# Altium schematic symbol library IFBschelib.SchLib: 99 symbols (part 1 of 2)
Pins are listed as number, name and electrical type; pins without a type are passive.

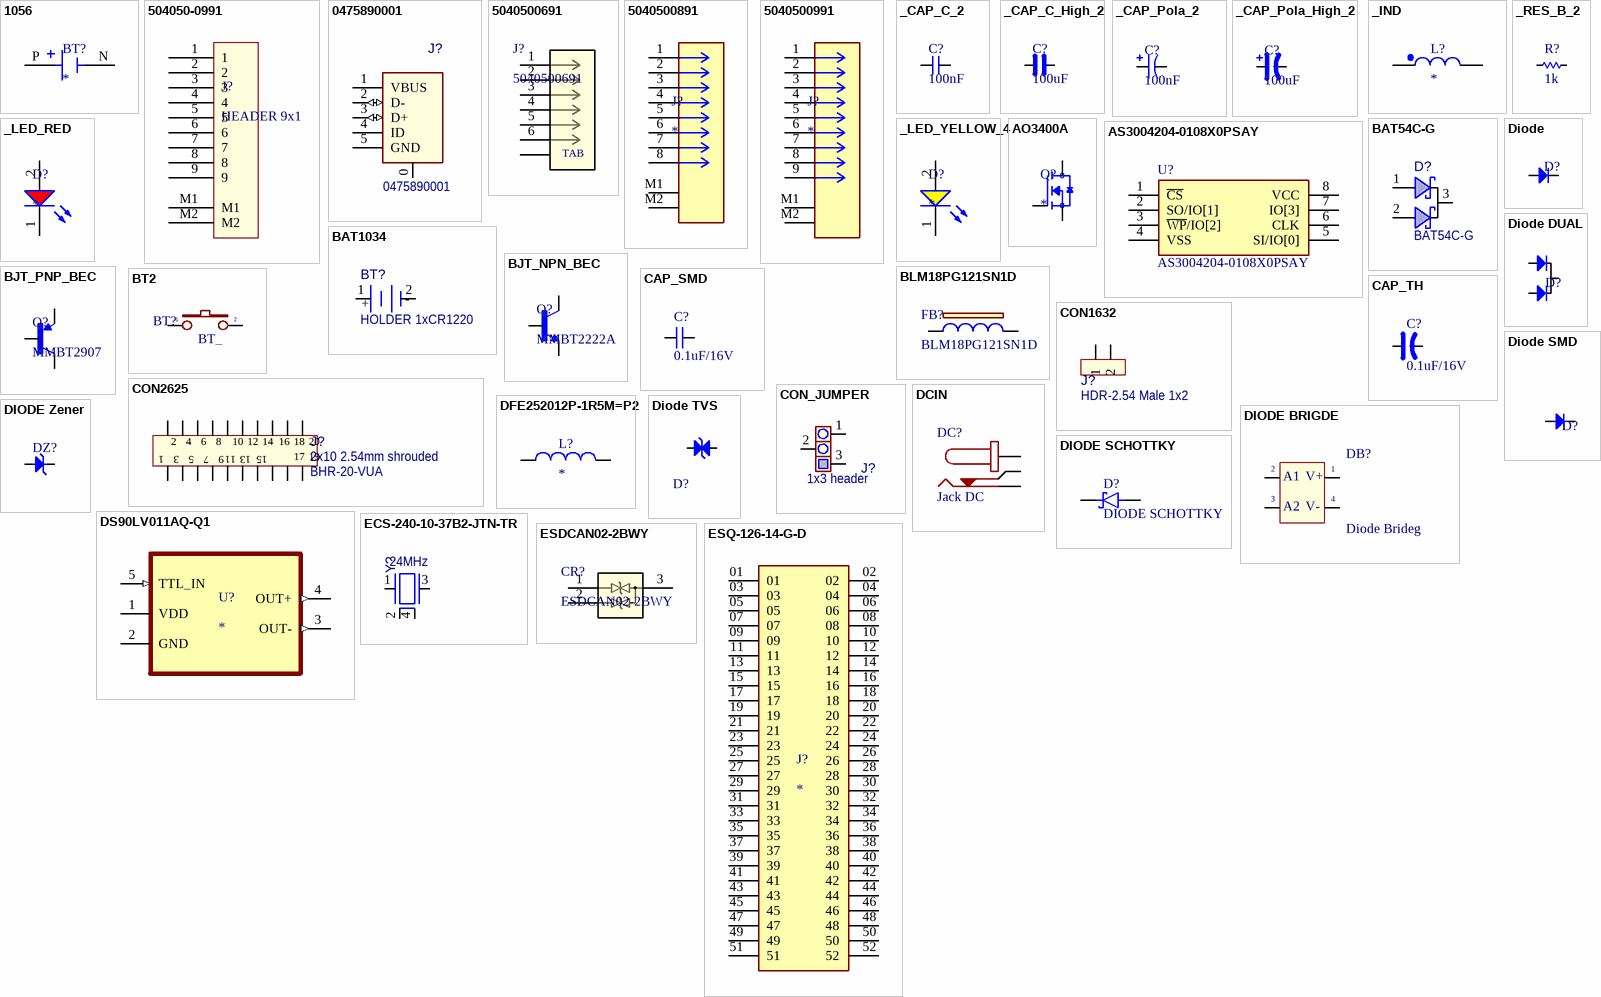
[diagram p0: symbols 1056 to ESQ-126-14-G-D]

## 1056
designator BT?
BATTERY HOLDER COIN 12.5MM SMD, SMT, 1 Coin Cell, 12mm, Plastic, UL94V-0 | Keystone Electronics 1056; MF: Keystone Electronics Corp.; MP: 1056; SnapEDA_Link: https://www.snapeda.com/parts/1056/Keystone/view-part/?ref=snap; Package: None; Value: *; Check_prices: https://www.snapeda.com/parts/1056/Keystone/view-part/?ref=eda
footprint BAT_1056
pins: N NEG, P POS

## 504050-0991
designator J?, comment HEADER 9x1
Molex Pico-Lock 504050-0991
footprint MOLEX_5040500991
pins: 1, 2, 3, 4, 5, 6, 7, 8, 9, M1, M2

## 0475890001
designator J?, comment value 0475890001  (hidden comment: CON USB2.0 Mini_Micro)
CONN RCPT MICRO USB AB 5P SMD RA; Manufacturer 1: Molex, LLC; MCHP-ID: CON1753; Description_: CON USB2.0 MICRO-AB FEMALE SMD R/A; Dev Tools Status: Production; Owner: Dragos Danaila; Voltage: 30VAC; Current: 1A, 1.8A; Custom Parameters: 10000 mating cycles; Populated: YES; Revision: 1; Symbol: CON USB2.0 Mini_Micro; Status: MCL Design; ComponentLink1URL: https://chn-vm-apps.microchip.com/mchprepo/parts/Datasheets/475890001_sd.pdf; ComponentLink1Description: SVN Datasheet; ComponentLink2URL: C:\ALTIUM_WORK\00001_MCHP-CDB\Datasheets\475890001_sd.pdf; ComponentLink2Description: Local Datasheet; ComponentLink3URL: C:\ALTIUM_WORK\00001_MCHP-CDB\Library\LibraryRefs\CON USB2.0 Mini_Micro.SchLib; ComponentLink3Description: Open Symbol; ComponentLink4URL: C:\ALTIUM_WORK\00001_MCHP-CDB\Library\Footprints\CON_USB_Micro-AB_SMD_RA_MOLEX_0475890001.PcbLib; ComponentLink4Description: Open Footprint; ComponentLink5Description: Open Footprint 2; ComponentLink6Description: Open Footprint 3; ComponentLink7Description: Open Footprint 4; Type: USB; Category: Connector; Manufacturer Part Number 1: 0475890001; Supplier 1: Digi-Key; Supplier Part Number 1: WM17143CT-ND; Quantity Override: 1; Operating Temperature: -35C to +85C; Assembly Type: SMD
footprint CON_USB_Micro-AB_SMD_RA_MOLEX_0475890001 (Connector, Receptacle, Micro-USB Type AB, R/A, SMT)
pins: 0 SHLD, 1 VBUS (power), 2 D- (io), 3 D+ (io), 4 ID, 5 GND (power)
4 alternate drawings of the same symbol

## 5040500691
designator J?
1.50mm Pitch, Pico-Lock PCB Header, Single Row, Right-Angle, Surface Mount, Gold (Au) Plating, Positive Lock, 6 Circuits, Tape and Reel; Manufacturer_Name: Molex Connector Corporation; Copyright: Copyright (C) 2025 Ultra Librarian. All rights reserved.; Manufacturer_Part_Number: 5040500691; Datasheet: https://www.molex.com/en-us/products/part-detail-pdf/5040500691?display=pdf; RefDes: RefDes; Type: Type
footprint 5040500691
pins: 1, 2, 3, 4, 5, 6, 7
text: TAB

## 5040500891
designator J?
Connector Header Surface Mount, Right Angle 8 position 0.059" (1.50mm)`
footprint MOLEX_5040500891
footprint MOLEX_5040500891
pins: 1, 2, 3, 4, 5, 6, 7, 8, M1, M2

## 5040500991
designator J?
Connector Header Surface Mount, Right Angle 9 position 0.059" (1.50mm)
footprint 5040500991
pins: 1, 2, 3, 4, 5, 6, 7, 8, 9, M1, M2

## _CAP_C_2
designator C?, comment 100nF
CAP CHIP
footprint CAP_C_1005X60
footprint CAP_C_1608X80 (Chip Capacitor, 2-Leads, Body 1.60x0.80mm, IPC Medium Density)
footprint CAP_C_2012X110 (Chip Capacitor, 2-Leads, Body 2.00x1.25mm, IPC High Density)
footprint CAP_C_3216X140 (Chip Capacitor, 2-Leads, Body 3.20x1.60mm, IPC High Density)
footprint CAP_C_3225X80 (Chip Capacitor, 2-Leads, Body 3.20x2.50mm, IPC Medium Density)
pins: 1, 2

## _CAP_C_High_2
designator C?, comment 100uF
CAP CHIP High Value
footprint CAP_C_1005X60
footprint CAP_C_1608X80 (Chip Capacitor, 2-Leads, Body 1.60x0.80mm, IPC Medium Density)
footprint CAP_C_2012X110 (Chip Capacitor, 2-Leads, Body 2.00x1.25mm, IPC High Density)
footprint CAP_C_3216X140 (Chip Capacitor, 2-Leads, Body 3.20x1.60mm, IPC High Density)
footprint CAP_C_3225X80 (Chip Capacitor, 2-Leads, Body 3.20x2.50mm, IPC Medium Density)
pins: 1, 2

## _CAP_Pola_2
designator C?, comment 100nF
CAP Polarization
footprint CAP_MP_1608X90 (Molded Capacitor, 2-Leads, Body 1.60x0.85mm, IPC Medium Density)
footprint CAP_MP_2012X170 (Molded Capacitor, 2-Leads, Body 2.05x1.40mm, IPC Medium Density)
pins: 1, 2

## _CAP_Pola_High_2
designator C?, comment 100uF
CAP Polarization High Value
footprint CAP_MP_3216X180 (Molded Capacitor, 2-Leads, Body 3.20x1.65mm, IPC Medium Density)
footprint CAP_MP_1608X90 (Molded Capacitor, 2-Leads, Body 1.60x0.85mm, IPC Medium Density)
footprint CAP_MP_2012X170 (Molded Capacitor, 2-Leads, Body 2.05x1.40mm, IPC Medium Density)
footprint CAP_MP_3528X210 (Molded Capacitor, 2-Leads, Body 3.50x2.85mm, IPC Medium Density)
pins: 1, 2

## _IND
designator L?
footprint IND730660x480 (Precision Wire Wound Inductor, 2-Leads, Body 7.30x6.60mm, IPC Medium Density)
footprint IND_C_2012X65 (Chip Inductor, 2-Leads, Body 2.00x1.25mm, IPC High Density)
pins: 1, 2

## _LED_RED
designator D?
footprint LED_0603
pins: 1 K, 2 A

## _LED_YELLOW_4
designator D?
footprint LED_0603
pins: 1 K, 2 A

## _RES_B_2
designator R?, comment 1k
RES
footprint RES_C_1005X40
footprint RES_C_1608X60 (Chip Resistor, 2-Leads, Body 1.63x0.83mm, IPC High Density)
footprint RES_C_2012X65 (Chip Resistor, 2-Leads, Body 2.00x1.25mm, IPC High Density)
footprint RES_C_3216X70 (Chip Resistor, 2-Leads, Body 3.20x1.60mm, IPC Medium Density)
pins: 1, 2

## AO3400A
designator Q?
N-Channel 30 V 5.7A (Ta) 1.4W (Ta) Surface Mount SOT-23-3; MF: Alpha & Omega Semiconductor; MP: AO3400A; SnapEDA_Link: https://www.snapeda.com/parts/AO3400A/Alpha/view-part/?ref=snap; Package: SOT-23 Alpha &amp; Omega Semiconductor Inc.; Value: *; Check_prices: https://www.snapeda.com/parts/AO3400A/Alpha/view-part/?ref=eda
footprint SOT95P280X125-3N
pins: 1 G, 2 S, 3 D

## AS3004204-0108X0PSAY
designator U?
MRAM Avalanche High Performance Serial P-SRAM 4Mb in SOIC8 package with QSPI - 108MHz interface, 3V, -40 C to 105 C; Manufacturer_Name: Avalanche Technology; Geometry.Height: 2.16mm; Manufacturer_Part_Number: AS3004204-0108X0PSAY; Mouser Part Number: 793-30042040108X0PSY; Mouser Price/Stock: https://www.mouser.co.uk/ProductDetail/Avalanche-Technology/AS3004204-0108X0PSAY/?qs=eP2BKZSCXI7G0ggegRejGg%3D%3D; Arrow Part Number: *; Arrow Price/Stock: *; Datasheet Link: https://www.mouser.ph/ProductDetail/Avalanche-Technology/AS3004204-0108X0PSAY?qs=eP2BKZSCXI7G0ggegRejGg%3D%3D
footprint SOIC127P790X216-8N
pins: 1 ~{CS}, 2 SO/IO[1], 3 ~{WP}/IO[2], 4 VSS, 5 SI/IO[0], 6 CLK, 7 IO[3], 8 VCC

## BAT54C-G
designator D?, comment value BAT54C-G  (hidden comment: Diode Schottky Dual CK)
DIODE ARR SCHOTT 30V 200MA SOT23; Manufacturer 1: Comchip Technology; MCHP-ID: DIODE1841; Description_: DIO SCTKY ARRAY BAT54C-G 520mV 200mA 30V SMD SOT-23-3; Dev Tools Status: Production; Type: Schottky Array; Power: 225mW; Reverse Current: 2mA; Reverse Recovery Time: 5ns; Owner: Cristina Salanti; Populated: YES; Restricted Sourcing: No; Revision: 1; Symbol: Diode Schottky Dual CK; Status: MCL Design; Package: SOT-23-3; ComponentLink1URL: https://chn-vm-apps.microchip.com/mchprepo/parts/Datasheets/BAT54.pdf; ComponentLink1Description: SVN Datasheet; ComponentLink2URL: C:\ALTIUM_WORK\00001_MCHP-CDB\Datasheets\BAT54.pdf; ComponentLink2Description: Local Datasheet; ComponentLink3URL: C:\ALTIUM_WORK\00001_MCHP-CDB\Library\LibraryRefs\Diode Schottky Dual CK.SchLib; ComponentLink3Description: Open Symbol; ComponentLink4URL: C:\ALTIUM_WORK\00001_MCHP-CDB\Library\Footprints\SOT-23-3.PcbLib; ComponentLink4Description: Open Footprint; ComponentLink5Description: Open Footprint 2; ComponentLink6Description: Open Footprint 3; ComponentLink7Description: Open Footprint 4; Operating Temperature: -55C to +125C; Category: Diode; Forward Current: 200mA; Reverse Voltage: 30V; Manufacturer Part Number 1: BAT54C-G; Supplier 1: Digi-Key; Supplier Part Number 1: 641-1320-1-ND; Quantity Override: 1
footprint SOT-23-3
pins: 1 A, 2 A, 3 KK

## BAT1034
designator BT?, comment value HOLDER 1xCR1220  (hidden comment: Battery 2 Pin)
Battery; Manufacturer 1: Keystone Electronics; Manufacturer Part Number 1: 3001; MCHP-ID: BAT1034; Description_: BATT HOLDER 1 COIN 12MM TH 3V; Dev Tools Status: Design; Owner: Sam Charles; Voltage: 3V; Chemistry: Li; Capacity: 35mAh; Populated: YES; Revision: A; Symbol: Battery 2 Pin; Status: MCL Design; ComponentLink1URL: https://chn-vm-apps.microchip.com/mchprepo/parts/Datasheets/3001.PDF; ComponentLink1Description: SVN Datasheet; ComponentLink2URL: C:\ALTIUM_WORK\00001_MCHP-CDB\Datasheets\3001.PDF; ComponentLink2Description: Local Datasheet; ComponentLink3URL: C:\ALTIUM_WORK\00001_MCHP-CDB\Library\LibraryRefs\Battery 2 Pin.SchLib; ComponentLink3Description: Open Symbol; ComponentLink4URL: C:\ALTIUM_WORK\00001_MCHP-CDB\Library\Footprints\BATT_HOLDER_12MM_3001.PcbLib; ComponentLink4Description: Open Footprint; ComponentLink5Description: Open Footprint 2; ComponentLink6Description: Open Footprint 3; ComponentLink7Description: Open Footprint 4; Type: Holder; Category: Battery; Supplier 1: Digi-Key; Supplier Part Number 1: 36-3001-ND; Quantity Override: 1
footprint BATT_HOLDER_12MM_3001
pins: 1 + (power), 2 - (power)
1 alternate drawing of the same symbol

## BJT_NPN_BEC
designator Q?, comment MMBT2222A
MF: Diotec Semiconductor; SnapEDA_Link: https://www.snapeda.com/parts/MMBT2222A/Diotec/view-part/?ref=snap; Package: SOT-23 Diotec; Value: *; MP: MMBT2222A; Check_prices: https://www.snapeda.com/parts/MMBT2222A/Diotec/view-part/?ref=eda
footprint SOT95P240X120-3N
pins: 1 B, 2 E, 3 C

## BJT_PNP_BEC
designator Q?, comment MMBT2907
MF: Diotec Semiconductor; MP: MMBT2222A; SnapEDA_Link: https://www.snapeda.com/parts/MMBT2222A/Diotec/view-part/?ref=snap; Package: SOT-23 Diotec; Value: *; Check_prices: https://www.snapeda.com/parts/MMBT2222A/Diotec/view-part/?ref=eda
footprint SOT95P240X120-3N
pins: 1 B, 2 E, 3 C

## BLM18PG121SN1D
designator FB?
FERRITE BEAD 120 OHM 0603 1LN; Manufacturer_Name: Murata; Copyright: Copyright (C) 2025 Ultra Librarian. All rights reserved.; Manufacturer_Part_Number: BLM18PG121SN1D
footprint IND_BLM18_0603_MUR
pins: 1, 2

## BT2
designator BT?, comment BT_
Switch button 2 pin; Value: SW chip 2 pin
footprint SW2-SMD
pins: 1, 2

## CAP_SMD
designator C?, comment 0.1uF/16V
CAP_Chip; Value: 33pF
pins: 1, 2

## CAP_TH
designator C?, comment 0.1uF/16V
CAP_Polarization; Published: 8-Jun-2000; LatestRevisionDate: 17-Jul-2002; LatestRevisionNote: Re-released for DXP Platform.; PackageReference: POLAR0.8; Publisher: Altium Limited
pins: 1, 2
1 alternate drawing of the same symbol

## CON1632
designator J?, comment value HDR-2.54 Male 1x2  (hidden comment: Header 1x2)
Manufacturer 1: Würth Elektronik; Manufacturer Part Number 1: 61300211121; MCHP-ID: CON1632; Description_: CON HDR-2.54 Male 1x2 Gold 5.84MH TH VERT; Dev Tools Status: Production; Owner: Narasimha Murthy; Populated: YES; Voltage: 250V; Current: 3A; Revision: 3; Symbol: Header 1x2; Status: MCL Design; ComponentLink1URL: https://chn-vm-apps.microchip.com/mchprepo/parts/Datasheets/6130xx11121.pdf; ComponentLink1Description: SVN Datasheet; ComponentLink2URL: C:\ALTIUM_WORK\00001_MCHP-CDB\Datasheets\6130xx11121.pdf; ComponentLink2Description: Local Datasheet; ComponentLink3URL: C:\ALTIUM_WORK\00001_MCHP-CDB\Library\LibraryRefs\Header 1x2.SchLib; ComponentLink3Description: Open Symbol; ComponentLink4URL: C:\ALTIUM_WORK\00001_MCHP-CDB\Library\Footprints\HDR_M_2.54_1x2.PcbLib; ComponentLink4Description: Open Footprint; ComponentLink5Description: Open Footprint 2; ComponentLink6Description: Open Footprint 3; ComponentLink7Description: Open Footprint 4; Type: Header 2.54mm; Category: Connector; Supplier 1: Digi-Key; Supplier Part Number 1: 732-5315-ND; Quantity Override: 1; Manufacturer 2: SHENZHEN JUNHAO ENGINEERING; Manufacturer Part Number 2: R-211-0211-0021-000; Supplier 2: SHENZHEN JUNHAO ENGINEERING; Supplier Part Number 2: R-211-0211-0021-000; Assembly Type: TH
footprint HDR_M_2.54_1x2 (Header Male Vertical 2 Way 2.54mm Pitch)
pins: 1, 2
9 alternate drawings of the same symbol

## CON2625
designator J?, comment value 2x10 2.54mm shrouded  Manufacturer Part Number 1: BHR-20-VUA  (hidden comment: Header 2x10)
Manufacturer 1: Adam Tech; MCHP-ID: CON2625; Description_: CON HDR-2.54 Male 2x10 Gold Shroud 9.1MH TH VERT; Dev Tools Status: Design; Owner: Dragos Danaila; Populated: YES; Voltage: 250VAC; Current: 3A; Revision: 1; Symbol: Header 2x10; Status: MCL Design; ComponentLink1URL: https://chn-vm-apps.microchip.com/mchprepo/parts/Datasheets/bhr-xx-vua-data-sheet.pdf; ComponentLink1Description: SVN Datasheet; ComponentLink2URL: C:\ALTIUM_WORK\00001_MCHP-CDB\Datasheets\bhr-xx-vua-data-sheet.pdf; ComponentLink2Description: Local Datasheet; ComponentLink3URL: C:\ALTIUM_WORK\00001_MCHP-CDB\Library\LibraryRefs\Header 2x10.SchLib; ComponentLink3Description: Open Symbol; ComponentLink4URL: C:\ALTIUM_WORK\00001_MCHP-CDB\Library\Footprints\HDR_M_2.54_2X10_SBH11-PBPC-D10-ST-BK.PcbLib; ComponentLink4Description: Open Footprint; ComponentLink5Description: Open Footprint 2; ComponentLink6Description: Open Footprint 3; ComponentLink7Description: Open Footprint 4; Type: Header 2.54mm; Category: Connector; Supplier 1: Digi-Key; Supplier Part Number 1: 2057-BHR-20-VUA-ND; Quantity Override: 1; Operating Temperature: -50C to +105C; Assembly Type: TH
footprint HDR_M_2.54_2X10_SBH11-PBPC-D10-ST-BK (20 Positions Header Connector 0.100" (2.54mm) Through Hole Gold)
pins: 1, 2, 3, 4, 5, 6, 7, 8, 9, 10, 11, 12, 13, 14, 15, 16, 17, 18, 19, 20
4 alternate drawings of the same symbol

## CON_JUMPER
designator J?, comment value 1x3 header  (hidden comment: Header 1x3)
used for choose jumper, header 3pins 2.54mm; Manufacturer 1: METZ CONNECT USA Inc.; Manufacturer Part Number 1: PR20203VBNN; MCHP-ID: CON2491; Description_: CON HDR-2.54 Male 1x3 Gold 6.10MH TH VERT; Dev Tools Status: Production; Owner: Dragos Danaila; Current: 3A; Populated: YES; Revision: 2; Symbol: Header 1x3; Status: MCL Design; ComponentLink1URL: https://chn-vm-apps.microchip.com/mchprepo/parts/Datasheets/Data_sheet_PR202XXVBNN.PDF; ComponentLink1Description: SVN Datasheet; ComponentLink2URL: C:\ALTIUM_WORK\00001_MCHP-CDB\Datasheets\Data_sheet_PR202XXVBNN.PDF; ComponentLink2Description: Local Datasheet; ComponentLink3URL: C:\ALTIUM_WORK\00001_MCHP-CDB\Library\LibraryRefs\Header 1x3.SchLib; ComponentLink3Description: Open Symbol; ComponentLink4URL: C:\ALTIUM_WORK\00001_MCHP-CDB\Library\Footprints\HDR_M_2.54_1x3.PcbLib; ComponentLink4Description: Open Footprint; ComponentLink5Description: Open Footprint 2; ComponentLink6Description: Open Footprint 3; ComponentLink7Description: Open Footprint 4; Type: Header 2.54mm; Category: Connector; Supplier 1: Digi-Key; Supplier Part Number 1: Deprecated_1849-1003-ND; Quantity Override: 1; Operating Temperature: -40C to +105C; Assembly Type: TH
footprint HDR_M_2.54_1x3 (Header Male Vertical 4 Way P=2.54mm)
pins: 1, 2, 3
6 alternate drawings of the same symbol

## DCIN
designator DC?, comment Jack DC
Jack DC input; Value: Jac DC
footprint DC0 (Jac DC input)
pins: 1 S (power) "Sleeve (Ground)", 2 TN "Tip Normal (Break Contact)", 3 T "Tip"

## DFE252012P-1R5M=P2
designator L?
Fixed Inductor 1.5uH 3.5A R060 SMD; MP: DFE252012P-1R5M=P2; Package: None; Price: None; Value: *; Availability: Unavailable
footprint INDC2520X120N
pins: 1, 2

## Diode
designator D?  (value not drawn)
Default Diode; Code - JEDEC: DO-214-AB; Value: 1N5007; Published: 8-Jun-2000; Revision: July-2002: Re-released for DXP Platform.; Publisher: Altium Limited
footprint DIO-1A
footprint DIO-0.5A-SMALL (Diode muoi, W 80mil, L 300mil)
footprint DIO-1A-SMALL (Diode 1A, W 100mil, L 350mil)
footprint DIO-2A (Diode 2A, W 150mil, L 450mil)
footprint DIO-5A (Diode 5A, W 200mil, L 550mil)
footprint DIO-5AN (Diode 5A, W 200mil, L 250mil)
footprint DIO-1AN (Diode 1A, W 100mil, L 150mil)
footprint DIO-3A (Diode 3A)
footprint DIO-2A - LONG (Diode 2A, W 150mil, L 450mil)
footprint DIO-2AN (Diode 2A, W 150mil, L 450mil)
footprint DIO-5A - LONG (Diode 5A, W 200mil, L 550mil)
footprint DIO-7A-SMALL (Diode 7A)
pins: 1 A, 2 K

## DIODE BRIGDE
designator DB?, comment Diode Brideg
Convert AC to DC voltage, 4 pin; Value: Cau 1A
footprint DIO-Bri 5A (Brigde 5A)
footprint DIO-Bri 1A
footprint DIO-Bri 2A (CAU 2A DET)
footprint DIO-BRI 35A (35A/1000V)
footprint DIO-Bri 10A (Brigde 10A)
footprint DIO-Bri 6A (Brigde 6A)
footprint DIO-Bri 8A (Brigde 8A)
footprint MB6S
pins: 1 +V OUT, 2 AC1, 3 AC2, 4 -V OUT
text: A1; V+; A2; V-

## Diode DUAL
designator D?  (value not drawn)
Default Diode; Code - JEDEC: DO-214-AB; Value: 1N5007; Published: 8-Jun-2000; Revision: July-2002: Re-released for DXP Platform.; Publisher: Altium Limited
footprint TO252-123
footprint TO220H2 (TO-220 - 1-2-3)
footprint TO220H1 (TO-220 - 1-2-3)
footprint TO220H3 (TO-220 1-2-3)
footprint TO247
footprint TO220-123 (TO-220 - 1-2-3)
footprint TO247+LageHeatsink
pins: 1, 2, 3

## DIODE SCHOTTKY
designator D?
pins: 1 K, 2 A

## Diode SMD
designator D?
Default Diode; Code - JEDEC: DO-214-AB; Value: 1N5007; Published: 8-Jun-2000; Revision: July-2002: Re-released for DXP Platform.; Publisher: Altium Limited
footprint DIO-SMD-106
footprint DIO-SMD-123
footprint DIO-SMD-A
footprint DIO-SMD-B (Magnetic-Core Inductor with Winding Polarity Marking; 2 Leads)
footprint DIO-SMD-216AA (DO216AA ST-MITE)
footprint DIO-SMD-222AA (DO216AA ST-MITE)
footprint DIO-SMD-C
footprint DIO-SMD-323
pins: 1 K, 2 A

## Diode TVS
designator D?
TVS Diode; Code - JEDEC: DO-214-AB; Value: 1N5007; Published: 8-Jun-2000; Revision: July-2002: Re-released for DXP Platform.; Publisher: Altium Limited
footprint DIO-SMD-106
footprint DIO-SMD-123
footprint DIO-SMD-A
footprint DIO-SMD-B (Magnetic-Core Inductor with Winding Polarity Marking; 2 Leads)
footprint DIO-SMD-216AA (DO216AA ST-MITE)
footprint DIO-SMD-222AA (DO216AA ST-MITE)
footprint DIO-SMD-C
footprint DIO-SMD-323
pins: 1 A, 2 K

## DIODE Zener
designator DZ?
Zenner
footprint DIO-0.5A-SMALL (Diode muoi, W 80mil, L 300mil)
footprint DIO-1A
footprint DIO-1A-SMALL (Diode 1A, W 100mil, L 350mil)
footprint DIO-1AN (Diode 1A, W 100mil, L 150mil)
footprint DIO-2A (Diode 2A, W 150mil, L 450mil)
footprint DIO-2A - LONG (Diode 2A, W 150mil, L 450mil)
footprint DIO-1A-ZEN (Diode 1A, W 100mil, L 350mil)
footprint DIO-2A-ZEN
pins: 1 K, 2 A

## DS90LV011AQ-Q1
designator U?
Automotive LVDS Differential Driver
footprint DS90LV011AQ-Q1
pins: 1 VDD (power), 2 GND (power), 3 OUT- (out), 4 OUT+ (out), 5 TTL_IN (in)

## ECS-240-10-37B2-JTN-TR
designator Y?, comment value 24MHz  (hidden comment: Crystal 4 Pins)
CRYSTAL 24 MHZ 10PF SMD; Manufacturer 1: ECS Inc; Manufacturer Part Number 1: ECS-240-10-37B2-JTN-TR; MCHP-ID: OSC1299; Description_: CRYSTAL 24MHz 10pF SMD L2W1.6H0.5; Dev Tools Status: Design; Owner: Ciprian Abramov; Tolerance: 20ppm; Populated: YES; Revision: 1; Symbol: Crystal 4 Pins; Status: MCL Design; ComponentLink1URL: https://chn-vm-apps.microchip.com/mchprepo/parts/Datasheets/ECX-1637B2.pdf; ComponentLink1Description: SVN Datasheet; ComponentLink2URL: C:\ALTIUM_WORK\00001_MCHP-CDB\Datasheets\ECX-1637B2.pdf; ComponentLink2Description: Local Datasheet; ComponentLink3URL: C:\ALTIUM_WORK\00001_MCHP-CDB\Library\LibraryRefs\Crystal 4 Pins.SchLib; ComponentLink3Description: Open Symbol; ComponentLink4URL: C:\ALTIUM_WORK\00001_MCHP-CDB\Library\Footprints\CRYSTAL_L2.0W1.6H0.5_FA-128.PcbLib; ComponentLink4Description: Open Footprint; ComponentLink5Description: Open Footprint 2; ComponentLink6Description: Open Footprint 3; ComponentLink7Description: Open Footprint 4; Operating Temperature: -40C to +85C; Package: L2.0W1.6H0.5; Type: Crystal; Category: Crystal/Oscillator; Load Capacitance: 10pF; Supplier 1: Digi-Key; Supplier Part Number 1: 50-ECS-240-10-37B2-JTN-TR-ND; Quantity Override: 1
footprint XTAL_ECS2401037B2JTNTR
pins: 1 Osc1, 2 GND (power), 3 Osc2, 4 GND (power)
1 alternate drawing of the same symbol

## ESDCAN02-2BWY
designator CR?
Automotive dual-line TVS in SOT323-3L for CAN bus (12 V system); Manufacturer_Name: STMicroelectronics; Copyright: Copyright (C) 2025 Ultra Librarian. All rights reserved.; Manufacturer_Part_Number: ESDCAN02-2BWY; RefDes: RefDes; Type: Type
footprint SOT323-3L_STM
pins: 1, 2, 3

## ESQ-126-14-G-D
designator J?
MP: ESQ-126-14-G-D; MF: Samtec; Price: None; Package: None; Value: *; Availability: Unavailable
footprint ESQ-126-14-G-D
pins: 01, 02, 03, 04, 05, 06, 07, 08, 09, 10, 11, 12, 13, 14, 15, 16, 17, 18, 19, 20, 21, 22, 23, 24, 25, 26, 27, 28, 29, 30, 31, 32, 33, 34, 35, 36, 37, 38, 39, 40, 41, 42, 43, 44, 45, 46, 47, 48, 49, 50, 51, 52

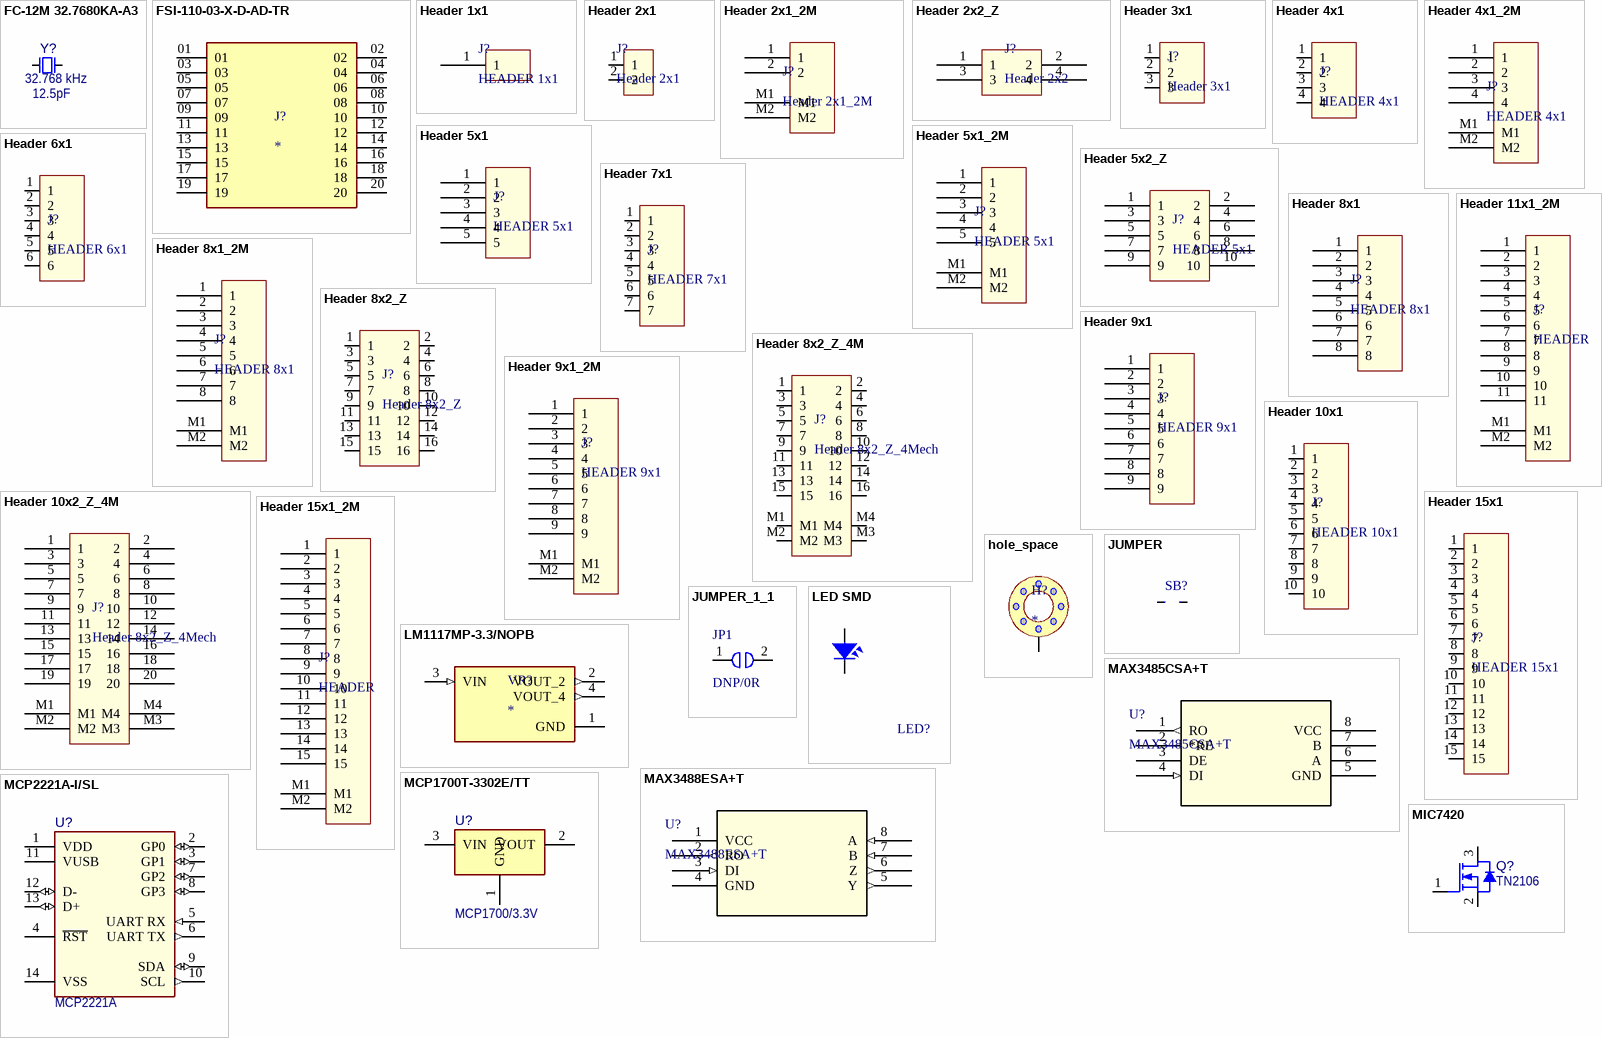
[diagram p1: symbols FC-12M 32.7680KA-A3 to MIC7420]

## FC-12M 32.7680KA-A3
designator Y?, comment value 32.768 kHz  Load Capacitance: 12.5pF  (hidden comment: Crystal 2 Pins)
CRYSTAL 32.7680KHZ 12.5PF SMD; Manufacturer 1: Epson; Manufacturer Part Number 1: FC-12M 32.7680KA-A3; MCHP-ID: OSC1269; Description_: CRYSTAL 32.768KHZ 12.5PF SMD 2-SMD, No Lead, FC-12M 32.7680KA-A3; Dev Tools Status: Design; Owner: Dragos Danaila; Tolerance: 20ppm; Populated: YES; Revision: 1; Symbol: Crystal 2 Pins; Status: MCL Design; ComponentLink1URL: https://chn-vm-apps.microchip.com/mchprepo/parts/Datasheets/FC-12D_en.pdf; ComponentLink1Description: SVN Datasheet; ComponentLink2URL: C:\ALTIUM_WORK\00001_MCHP-CDB\Datasheets\FC-12D_en.pdf; ComponentLink2Description: Local Datasheet; ComponentLink3URL: C:\ALTIUM_WORK\00001_MCHP-CDB\Library\LibraryRefs\Crystal 2 Pins.SchLib; ComponentLink3Description: Open Symbol; ComponentLink4URL: C:\ALTIUM_WORK\00001_MCHP-CDB\Library\Footprints\CRYSTAL_FC-12M_L2.05W1.2H0.6.PcbLib; ComponentLink4Description: Open Footprint; ComponentLink5Description: Open Footprint 2; ComponentLink6Description: Open Footprint 3; ComponentLink7Description: Open Footprint 4; Operating Temperature: -40°C ~ 85°C; Package: 2-SMD, No Lead; Type: Crystal; Category: Crystal/Oscillator; Supplier 1: Digikey; Supplier Part Number 1: SER3672CT-ND; Quantity Override: 1
footprint CRYSTAL_FC-12M_L2.05W1.2H0.6
pins: 1 Osc1, 2 Osc2

## FSI-110-03-X-D-AD-TR
designator J?
1mm SINGLE ELEMENT INTERFACE; MP: FSI-110-03-X-D-AD-TR; Price: None; Package: None; Availability: Unavailable; Value: *
footprint SAMTEC_FSI-110-03-X-D-AD-TR
pins: 01, 02, 03, 04, 05, 06, 07, 08, 09, 10, 11, 12, 13, 14, 15, 16, 17, 18, 19, 20

## Header 1x1
designator J?, comment HEADER 1x1
pins: 1

## Header 2x1
designator J?
footprint JST_B2B-XH-A
footprint JP2-D1T
pins: 1, 2

## Header 2x1_2M
designator J?
footprint JST_B2B-XH-A
footprint JP2-D1T
pins: 1, 2, M1, M2

## Header 2x2_Z
designator J?, comment Header 2x2
pins: 1, 2, 3, 4

## Header 3x1
designator J?
pins: 1, 2, 3

## Header 4x1
designator J?, comment HEADER 4x1
pins: 1, 2, 3, 4

## Header 4x1_2M
designator J?, comment HEADER 4x1
pins: 1, 2, 3, 4, M1, M2

## Header 5x1
designator J?, comment HEADER 5x1
footprint Header_254P_5x1
pins: 1, 2, 3, 4, 5

## Header 5x1_2M
designator J?, comment HEADER 5x1
pins: 1, 2, 3, 4, 5, M1, M2

## Header 5x2_Z
designator J?, comment HEADER 5x1
pins: 1, 2, 3, 4, 5, 6, 7, 8, 9, 10

## Header 6x1
designator J?, comment HEADER 6x1
pins: 1, 2, 3, 4, 5, 6

## Header 7x1
designator J?, comment HEADER 7x1
pins: 1, 2, 3, 4, 5, 6, 7

## Header 8x1
designator J?, comment HEADER 8x1
pins: 1, 2, 3, 4, 5, 6, 7, 8

## Header 8x1_2M
designator J?, comment HEADER 8x1
pins: 1, 2, 3, 4, 5, 6, 7, 8, M1, M2

## Header 8x2_Z
designator J?
Header 8x2 Zigzag pin
pins: 1, 2, 3, 4, 5, 6, 7, 8, 9, 10, 11, 12, 13, 14, 15, 16

## Header 8x2_Z_4M
designator J?, comment Header 8x2_Z_4Mech
Header 8x2 Zigzag pin_4Mech
pins: 1, 2, 3, 4, 5, 6, 7, 8, 9, 10, 11, 12, 13, 14, 15, 16, M1, M2, M3, M4

## Header 9x1
designator J?, comment HEADER 9x1
pins: 1, 2, 3, 4, 5, 6, 7, 8, 9

## Header 9x1_2M
designator J?, comment HEADER 9x1
pins: 1, 2, 3, 4, 5, 6, 7, 8, 9, M1, M2

## Header 10x1
designator J?, comment HEADER 10x1
pins: 1, 2, 3, 4, 5, 6, 7, 8, 9, 10

## Header 10x2_Z_4M
designator J?, comment Header 8x2_Z_4Mech
Header 8x2 Zigzag pin_4Mech
pins: 1, 2, 3, 4, 5, 6, 7, 8, 9, 10, 11, 12, 13, 14, 15, 16, 17, 18, 19, 20, M1, M2, M3, M4

## Header 11x1_2M
designator J?, comment HEADER
pins: 1, 2, 3, 4, 5, 6, 7, 8, 9, 10, 11, M1, M2

## Header 15x1
designator J?, comment HEADER 15x1
pins: 1, 2, 3, 4, 5, 6, 7, 8, 9, 10, 11, 12, 13, 14, 15

## Header 15x1_2M
designator J?, comment HEADER
pins: 1, 2, 3, 4, 5, 6, 7, 8, 9, 10, 11, 12, 13, 14, 15, M1, M2

## hole_space
designator H?
footprint HOLE_SPACE
pins: 1

## JUMPER
designator SB?  (value not drawn)
footprint JUMPER_1608
pins: 1, 2

## JUMPER_1_1
designator JP1, comment DNP/0R
footprint JUMPER2
footprint JUMPER-EXP-V110
footprint JUMPER-EXP-V110
footprint JUMPER
footprint JUMPER
footprint RES_C_1608X60 (Chip Resistor, 2-Leads, Body 1.63x0.83mm, IPC High Density)
pins: 1, 2

## LED SMD
designator LED?, comment LED  (value not drawn)
Value: LED 3 - 5 ly 2 Colour
footprint LED-0603-RED
footprint LED-0603-YELLOW
footprint LED-0805-Red
footprint LED-0805-Yellow
footprint LED-0603-Blue
footprint LED-0805-Blue
pins: 1, 2

## LM1117MP-3.3/NOPB
designator VR?
800-mA 15-V linear voltage regulator; MF: Texas Instruments; MP: LM1117MP-3.3/NOPB; SnapEDA_Link: https://www.snapeda.com/parts/LM1117MP-3.3/NOPB/Texas+Instruments/view-part/?ref=snap; Package: SOT-223-4 Texas Instruments; Value: *; Check_prices: https://www.snapeda.com/parts/LM1117MP-3.3/NOPB/Texas+Instruments/view-part/?ref=eda
footprint VREG_LM1117MP-3.3/NOPB
pins: 1 GND (power), 2 VOUT_2 (out), 3 VIN (in), 4 VOUT_4 (out)

## MAX3485CSA+T
designator U?
Low-Power, Slew-Rate-Limited RS-485/RS-422 Transceivers, IC TRANSCEIVER HALF 1/1 8SOIC; Manufacturer_Name: Analog Devices Inc; Manufacturer_Part_Number: MAX485CSA+T; Copyright: Copyright (C) 2025 Ultra Librarian. All rights reserved.; RefDes: RefDes; Type: Type
footprint 21-0041-3-M_90-0096-8L_MXM
pins: 1 RO (out), 2 *RE, 3 DE, 4 DI (in), 5 GND (power), 6 A, 7 B, 8 VCC (power)

## MAX3488ESA+T
designator U?
Low-Power, Slew-Rate-Limited RS-485/RS-422, IC TRANSCEIVER FULL 1/1 8SOIC; Manufacturer_Name: Analog Devices Inc; Manufacturer_Part_Number: MAX488ESA+T; Copyright: Copyright (C) 2025 Ultra Librarian. All rights reserved.; Digi-Key_Part_Number_1: MAX488ESA+CT-ND; Digi-Key_Part_Number_2: MAX488ESA+DKR-ND; Digi-Key_Part_Number_3: MAX488ESA+T-ND; Digi-Key_Part_Number_4: MAX488ESA+TR-ND; RefDes: RefDes; Type: Type
footprint 21-0041-3-M_90-0096-8L_MXM
pins: 1 VCC (power), 2 RO (out), 3 DI (in), 4 GND (power), 5 Y (out), 6 Z (out), 7 B (in), 8 A (in)

## MCP1700T-3302E/TT
designator U?, comment value MCP1700/3.3V  (hidden comment: MCP170X SOT-23-3_SOT-23A-3)
IC REG LINEAR 3.3V 250MA SOT23-3; Manufacturer 1: Microchip Technology; Manufacturer Part Number 1: MCP1700T-3302E/TT; MCHP-ID: MIC0598; Description_: MCHP ANALOG LDO 3.3V MCP1700T-3302E/TT SOT-23-3; Dev Tools Status: Production; Populated: Yes; Symbol: MCP170X SOT-23-3_SOT-23A-3; Type: LDO; Status: MCL Design; Revision: 1; Category: MCHP-Analog; ComponentLink1URL: https://www.microchip.com/sitesearch/search/Product%20and%20Development%20Tools/MCP1700T-3302E/TT; ComponentLink1Description: SVN Datasheet; ComponentLink2Description: Local Datasheet; ComponentLink3URL: C:\ALTIUM_WORK\00001_MCHP-CDB\Library\LibraryRefs\MCP170X SOT-23-3_SOT-23A-3.SchLib; ComponentLink3Description: Open Symbol; ComponentLink4URL: C:\ALTIUM_WORK\00001_MCHP-CDB\Library\Footprints\SOT-23-3.PcbLib; ComponentLink4Description: Open Footprint; ComponentLink5Description: Open Footprint 2; ComponentLink6Description: Open Footprint 3; ComponentLink7Description: Open Footprint 4; Supplier 1: Microchip Technology; Supplier Part Number 1: MCP1700T-3302E/TT; Operating Temperature: -40C to +125C; Quantity Override: 1
footprint SOT-23-3
pins: 1 GND (power), 2 VOUT (power), 3 VIN (power)

## MCP2221A-I/SL
designator U?, comment value MCP2221A  (hidden comment: MCP2221 SOIC-14_TSSOP-14_PDIP-14)
IC USB TO I2C/UART 14SOIC; Manufacturer 1: Microchip Technology; Manufacturer Part Number 1: MCP2221A-I/SL; MCHP-ID: MIC9078; Description_: MCHP INTERFACE USB I2C UART MCP2221A-I/SL SOIC-14; Dev Tools Status: Design; Owner: Octavian Stroe; Populated: YES; Symbol: MCP2221 SOIC-14_TSSOP-14_PDIP-14; Type: USB; Status: MCL Design; Revision: A; Category: MCHP-Interface; ComponentLink1URL: https://chn-vm-apps.microchip.com/mchprepo/parts/Datasheets/20005292B.pdf; ComponentLink1Description: SVN Datasheet; ComponentLink2URL: C:\ALTIUM_WORK\00001_MCHP-CDB\Datasheets\20005292B.pdf; ComponentLink2Description: Local Datasheet; ComponentLink3URL: C:\ALTIUM_WORK\00001_MCHP-CDB\Library\LibraryRefs\MCP2221 SOIC-14_TSSOP-14_PDIP-14.SchLib; ComponentLink3Description: Open Symbol; ComponentLink4URL: C:\ALTIUM_WORK\00001_MCHP-CDB\Library\Footprints\SOIC-14.PcbLib; ComponentLink4Description: Open Footprint; ComponentLink5Description: Open Footprint 2; ComponentLink6Description: Open Footprint 3; ComponentLink7Description: Open Footprint 4; Manufacturer 2: Microchip Technology; Manufacturer Part Number 2: MCP2221A-I/SL; Supplier 1: Digi-Key; Supplier Part Number 1: MCP2221A-I/SL-ND; Supplier 2: Mouser; Supplier Part Number 2: 579-MCP2221A-I/SL; Operating Temperature: -40C to +85C; Quantity Override: 1
footprint SOIC-14 (SOIC 150mil, 14-Leads, Body 8.65x3.9mm, Pitch 1.27mm)
pins: 1 VDD (power), 2 GP0 (io), 3 GP1 (io), 4 ~{RST}, 5 UART RX (in), 6 UART TX (out), 7 GP2 (io), 8 GP3 (io), 9 SDA (io), 10 SCL (out), 11 VUSB (power), 12 D- (io), 13 D+ (io), 14 VSS (power)
1 alternate drawing of the same symbol

## MIC7420
designator Q?, comment value TN2106  (hidden comment: Transistor MOS-N GSD)
Transistor MOS; Manufacturer 1: Microchip Technology; Manufacturer Part Number 1: TN2106K1-G; MCHP-ID: MIC7420; Description_: MCHP ANALOG MOSFET N-CH TN2106 60V 280mA 360mW 2.5R SOT23-3; Type: MOSFET; Dev Tools Status: Production; Owner: Ilie Galan; Populated: YES; Symbol: Transistor MOS-N GSD; Status: MCL Design; Revision: 1; Category: MCHP-Analog; ComponentLink1Description: SVN Datasheet; ComponentLink2URL: C:\ALTIUM_WORK\00001_MCHP-CDB\Datasheets\TN2106 B080913.pdf; ComponentLink2Description: Local Datasheet; ComponentLink3URL: C:\ALTIUM_WORK\00001_MCHP-CDB\Library\LibraryRefs\Transistor MOS-N GSD.SchLib; ComponentLink3Description: Open Symbol; ComponentLink4URL: C:\ALTIUM_WORK\00001_MCHP-CDB\Library\Footprints\SOT-23-3.PcbLib; ComponentLink4Description: Open Footprint; ComponentLink5Description: Open Footprint 2; ComponentLink6Description: Open Footprint 3; ComponentLink7Description: Open Footprint 4; Supplier 1: Microchip Technology; Supplier Part Number 1: TN2106K1-G; Quantity Override: 1
footprint SOT-23-3
pins: 1 G, 2 S, 3 D

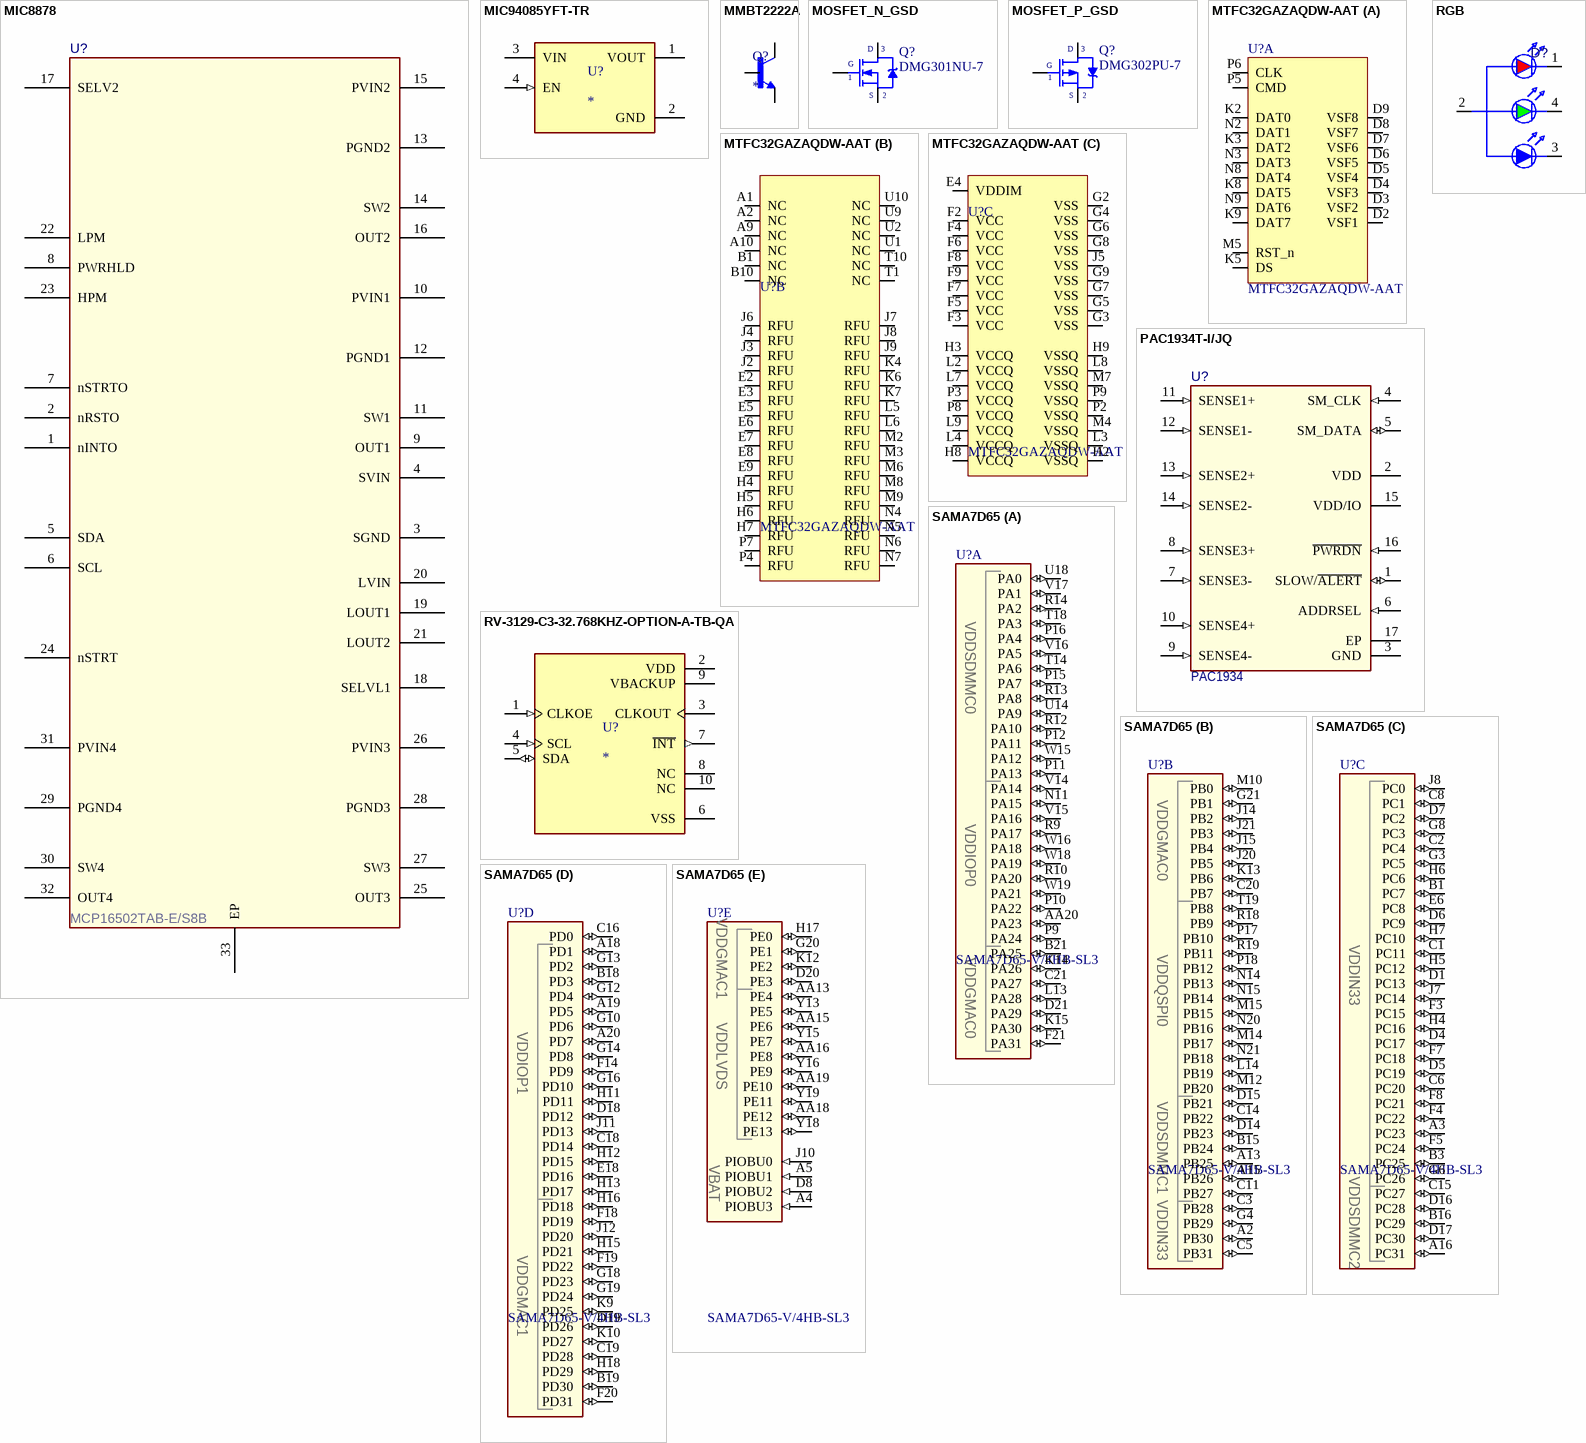
[diagram p2: symbols MIC8878 to SAMA7D65]

## MIC8878
designator U?, comment value MCP16502TAB-E/S8B  (hidden comment: MCP16502 QFN-32)
Manufacturer 1: Microchip Technology; Populated: YES; MCHP-ID: MIC8878; Description_: MCHP ANALOG PMIC SWITCHER Buck ADJ MCP16502TAB-E/S8B QFN-32 for SAMA7G5 MPU with LPDDR/DDR2/DDR3; Dev Tools Status: Design; Owner: Dragos Danaila; Symbol: MCP16502 QFN-32; Type: Switcher; Status: MCL Design; Revision: 1; Category: MCHP-Analog; ComponentLink1Description: SVN Datasheet; ComponentLink2Description: Local Datasheet; ComponentLink3URL: C:\ALTIUM_WORK\00001_MCHP-CDB\Library\LibraryRefs\MCP16502 QFN-32.SchLib; ComponentLink3Description: Open Symbol; ComponentLink4URL: C:\ALTIUM_WORK\00001_MCHP-CDB\Library\Footprints\QFN-32_5X5_EP3.7X3.7.PcbLib; ComponentLink4Description: Open Footprint; ComponentLink5Description: Open Footprint 2; ComponentLink6Description: Open Footprint 3; ComponentLink7Description: Open Footprint 4; Manufacturer Part Number 1: MCP16502TAB-E/S8B; Supplier 1: Digi-Key; Supplier Part Number 1: 150-MCP16502TAB-E/S8BCT-ND; Quantity Override: 1; ComponentLink2URL: C:\ALTIUM_WORK\00001_MCHP-CDB\Datasheets\MCP16502-High-Performance-PMIC-for-SAMA5DX-SAM9X6-MPUs-Data-Sheet-DS20006275B.pdf
footprint QFN-32_5X5_EP3.7X3.7 (QFN32_5MMwith ePAD)
pins: 1 nINTO, 2 nRSTO, 3 SGND, 4 SVIN, 5 SDA, 6 SCL, 7 nSTRTO, 8 PWRHLD, 9 OUT1, 10 PVIN1, 11 SW1, 12 PGND1, 13 PGND2, 14 SW2, 15 PVIN2, 16 OUT2, 17 SELV2, 18 SELVL1, 19 LOUT1, 20 LVIN, 21 LOUT2, 22 LPM, 23 HPM, 24 nSTRT, 25 OUT3, 26 PVIN3, 27 SW3, 28 PGND3, 29 PGND4, 30 SW4, 31 PVIN4, 32 OUT4, 33 EP
1 alternate drawing of the same symbol

## MIC94085YFT-TR
designator U?
Power Switch/Driver 1:1 P-Channel 2A 4-TMLFÂ® (0.85x0.85); MF: Microchip; MP: MIC94085YFT-TR; SnapEDA_Link: https://www.snapeda.com/parts/MIC94085YFT-TR/Microchip+Technology/view-part/?ref=snap; Package: UFDFN-4 Microchip; Value: *; Check_prices: https://www.snapeda.com/parts/MIC94085YFT-TR/Microchip+Technology/view-part/?ref=eda
footprint IC_MIC94085YFT-TR
pins: 1 VOUT (power), 2 GND (power), 3 VIN (power), 4 EN (in)

## MMBT2222A
designator Q?
BJT, SOT-23, 40V, 600mA, NPN, 0.25W, 150Â°C; MF: Diotec Semiconductor; MP: MMBT2222A; SnapEDA_Link: https://www.snapeda.com/parts/MMBT2222A/Diotec/view-part/?ref=snap; Package: SOT-23 Diotec; Value: *; Check_prices: https://www.snapeda.com/parts/MMBT2222A/Diotec/view-part/?ref=eda
footprint SOT95P240X120-3N
pins: 1 B, 2 E, 3 C

## MOSFET_N_GSD
designator Q?, comment DMG301NU-7
footprint SOT95P240X120-3N
pins: 1 G, 2 S, 3 D

## MOSFET_P_GSD
designator Q?, comment DMG302PU-7
footprint TO252-123
footprint SOT23-3-123
footprint SOT95P240X120-3N
footprint SOT23-3-213
pins: 1 G, 2 S, 3 D

## MTFC32GAZAQDW-AAT
designator U?
footprint BGA_100_C_100P_10X17_1400X1800X150 (BGA, 100-Leads, Body 14.00x18.00mmx1.50mm, Pitch 1.00mm)
part A pins: D2 VSF1, D3 VSF2, D4 VSF3, D5 VSF4, D6 VSF5, D7 VSF6, D8 VSF7, D9 VSF8, K2 DAT0, K3 DAT2, K5 DS, K8 DAT5, K9 DAT7, M5 RST_n, N2 DAT1, N3 DAT3, N8 DAT4, N9 DAT6, P5 CMD, P6 CLK
part B pins: A1 NC, A2 NC, A9 NC, A10 NC, B1 NC, B10 NC, E2 RFU, E3 RFU, E5 RFU, E6 RFU, E7 RFU, E8 RFU, E9 RFU, H4 RFU, H5 RFU, H6 RFU, H7 RFU, J2 RFU, J3 RFU, J4 RFU, J6 RFU, J7 RFU, J8 RFU, J9 RFU, K4 RFU, K6 RFU, K7 RFU, L5 RFU, L6 RFU, M2 RFU, M3 RFU, M6 RFU, M8 RFU, M9 RFU, N4 RFU, N5 RFU, N6 RFU, N7 RFU, P4 RFU, P7 RFU, T1 NC, T10 NC, U1 NC, U2 NC, U9 NC, U10 NC
part C pins: E4 VDDIM, F2 VCC, F3 VCC, F4 VCC, F5 VCC, F6 VCC, F7 VCC, F8 VCC, F9 VCC, G2 VSS, G3 VSS, G4 VSS, G5 VSS, G6 VSS, G7 VSS, G8 VSS, G9 VSS, H2 VSSQ, H3 VCCQ, H8 VCCQ, H9 VSSQ, J5 VSS, L2 VCCQ, L3 VSSQ, L4 VCCQ, L7 VCCQ, L8 VSSQ, L9 VCCQ, M4 VSSQ, M7 VSSQ, P2 VSSQ, P3 VCCQ, P8 VCCQ, P9 VSSQ

## PAC1934T-I/JQ
designator U?, comment value PAC1934  (hidden comment: Microchip PAC1934 UQFN-16)
IC CURRENT MONITOR 1% 16UQFN; Manufacturer 1: Microchip Technology; Manufacturer Part Number 1: PAC1934T-I/JQ; MCHP-ID: MIC7010; Description_: MCHP ANALOG POWER CURRENT SENSE MONITOR PAC1934T-I/JQ UQFN-16; Dev Tools Status: Production; Owner: Razvan Cristescu; Populated: YES; Restricted Sourcing: No; Symbol: PAC1934 UQFN-16; Type: Power/Current Sensor; Status: MCL Design; Revision: 2; Category: MCHP-Analog; ComponentLink1Description: SVN Datasheet; ComponentLink2Description: Local Datasheet; ComponentLink3URL: C:\ALTIUM_WORK\00001_MCHP-CDB\Library\LibraryRefs\PAC1934 UQFN-16.SchLib; ComponentLink3Description: Open Symbol; ComponentLink4URL: C:\ALTIUM_WORK\00001_MCHP-CDB\Library\Footprints\UQFN-16_4X4_EP2.6X2.6.PcbLib; ComponentLink4Description: Open Footprint; ComponentLink5Description: Open Footprint 2; ComponentLink6Description: Open Footprint 3; ComponentLink7Description: Open Footprint 4; Supplier 1: Microchip Technology; Supplier Part Number 1: PAC1934T-I/JQ; Quantity Override: 1; ComponentLink1URL: https://www.microchip.com/sitesearch/search/Product%20and%20Development%20Tools/PAC1934T-I/JQ; Operating Temperature: -40C to +85C
footprint UQFN-16_4X4_EP2.6X2.6
pins: 1 SLOW/~{ALERT} (io), 2 VDD (power), 3 GND (power), 4 SM_CLK (in), 5 SM_DATA (io), 6 ADDRSEL (in), 7 SENSE3- (in), 8 SENSE3+ (in), 9 SENSE4- (in), 10 SENSE4+ (in), 11 SENSE1+ (in), 12 SENSE1- (in), 13 SENSE2+ (in), 14 SENSE2- (in), 15 VDD/IO (power), 16 ~{PWRDN} (in), 17 EP
2 alternate drawings of the same symbol

## RGB
designator D?, comment LED_RGB_CLV1A  (value not drawn)
CLV1A-FKB-CK1VW1DE1BB7C3C3, LED RGB 4PLCC SMD; Manufacturer 1: Cree Inc.; MCHP-ID: DIODE1214; Value: RED, GREEN, BLUE; Description_: DIO LED TRI RED, GREEN, BLUE 2V, 3.2V, 3.2V 20mA, 20mA, 20mA SMD 4-PLCC; Dev Tools Status: Production; Type: LED Tricolor; Forward Current: 20mA, 20mA, 20mA; Power: 130mW, 100mW, 100mW; Reverse Current: 10uA; Reverse Voltage: 5V; Owner: Randolph Sobrepena; Populated: YES; Revision: 2; Symbol: LED_RGB_CLV1A; Status: MCL Design; Package: 4-PLCC; ComponentLink1URL: https://chn-vm-apps.microchip.com/mchprepo/parts/Datasheets/CLV1A-FKB_Rev5; ComponentLink1Description: SVN Datasheet; ComponentLink2URL: C:\ALTIUM_WORK\00001_MCHP-CDB\Datasheets\CLV1A-FKB_Rev5; ComponentLink2Description: Local Datasheet; ComponentLink3URL: C:\ALTIUM_WORK\00001_MCHP-CDB\Library\LibraryRefs\LED_RGB_CLV1A.SchLib; ComponentLink3Description: Open Symbol; ComponentLink4URL: C:\ALTIUM_WORK\00001_MCHP-CDB\Library\Footprints\PLCC-4_CLV1A-FKB.PcbLib; ComponentLink4Description: Open Footprint; ComponentLink5Description: Open Footprint 2; ComponentLink6Description: Open Footprint 3; ComponentLink7Description: Open Footprint 4; Operating Temperature: -40C - +100C; Category: Diode; Supplier 1: Digi-Key; Supplier Part Number 1: CLV1A-FKB-CK1VW1DE1BB7C3C3CT-ND; Quantity Override: 1; Manufacturer Part Number 1: CLV1A-FKB-CK1VW1DE1BB7C3C3
footprint PLCC-4_CLV1A-FKB
pins: 1 Kr, 2 A, 3 Kb, 4 Kg
1 alternate drawing of the same symbol

## RV-3129-C3-32.768KHZ-OPTION-A-TB-QA
designator U?
Real-Time Clock Module with I2C-Bus; MP: RV-3129-C3-32.768KHZ-OPTION-A-TB-QA; Value: *; Price: None; Package: None; Availability: Unavailable
footprint IC_RV-3129-C3-32.768KHZ-OPTION-A-TB-QA
pins: 1 CLKOE (in), 2 VDD (power), 3 CLKOUT, 4 SCL (in), 5 SDA (io), 6 VSS (power), 7 ~{INT} (out), 8 NC, 9 VBACKUP (power), 10 NC

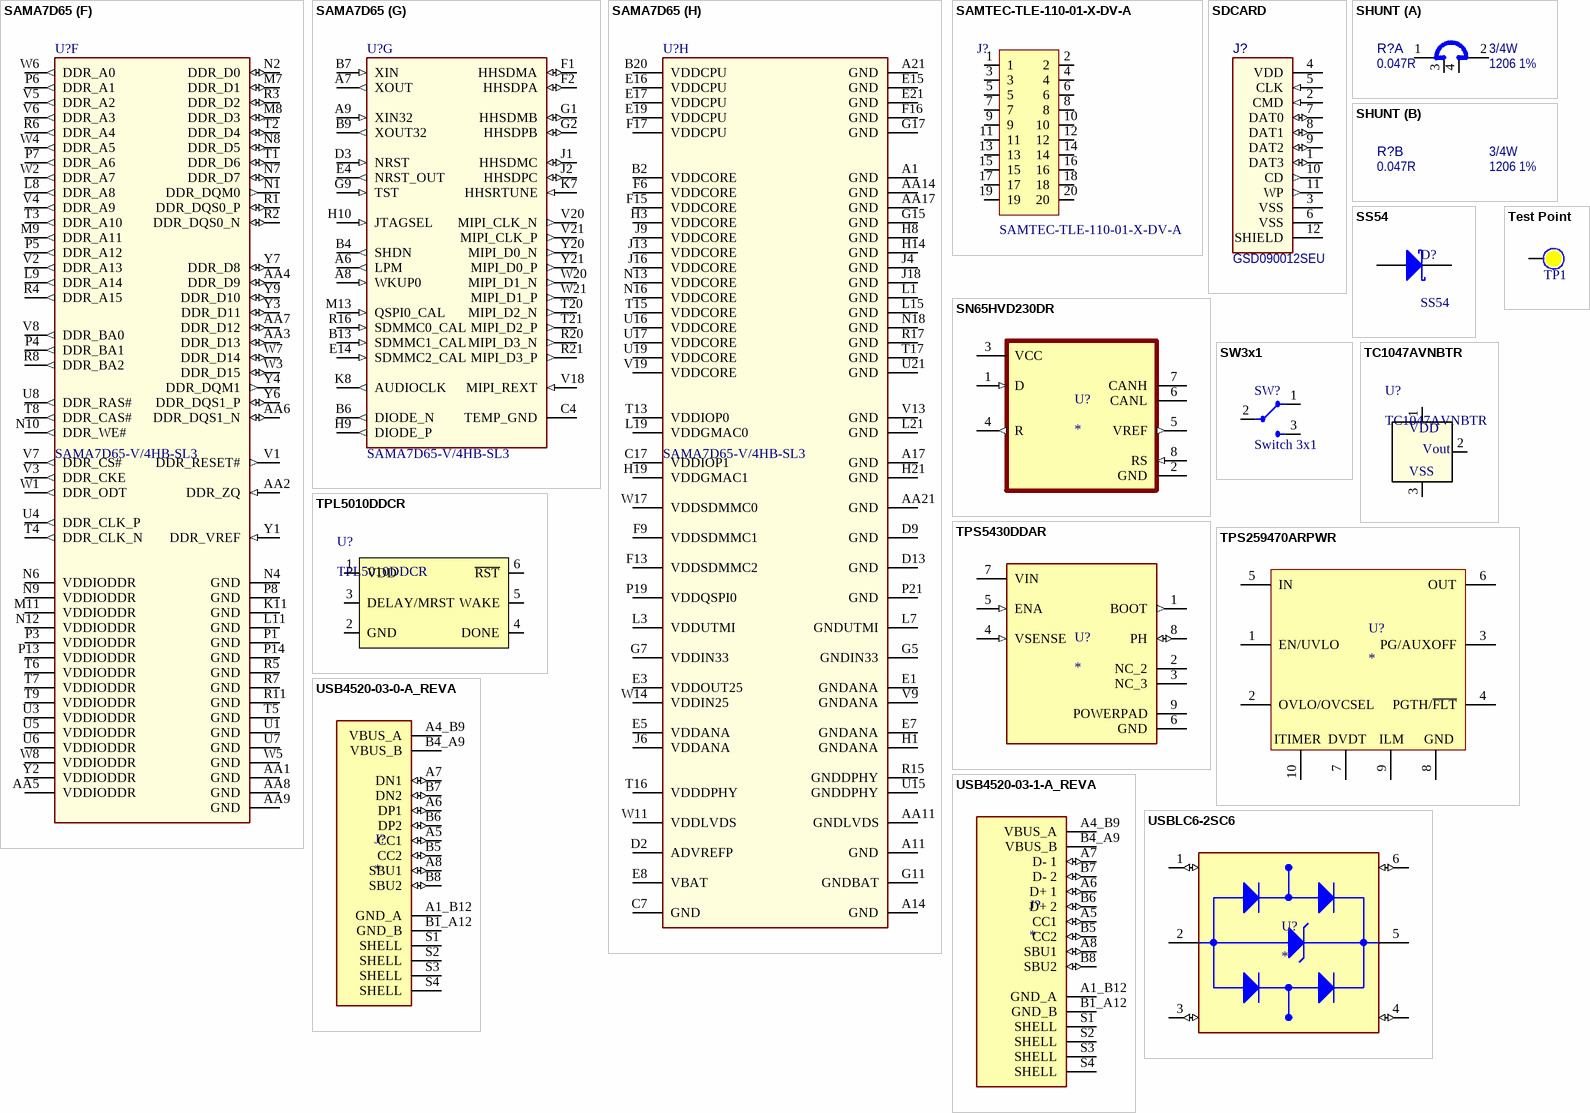
[diagram p3: symbols SAMA7D65 to USBLC6-2SC6]

## SAMA7D65
designator U?  value SAMA7D65-V/4HB-SL3  (hidden comment: SAMA7D65)
SAMA7D65 MPU 1000MHz Cortex-A7 TFBGA-343; Manufacturer 1: Microchip Technology; Description_: MCHP MPU 32-BIT Cortex-A7 1000MHz 128kB SAMA7D65-V/4HB-SL3 TFBGA-343; Populated: YES; MCHP-ID: IC2674; Symbol: SAMA7D65-TFBGA-343; Dev Tools Status: Design; Owner: Ciprian Abramov; Restricted Sourcing: No; Manufacturer Part Number 1: SAMA7D65-V/4HB-SL3; Type: 32-Bit MPU; Status: MCL Design; Revision: 1; Category: MCHP-Microcontroller; ComponentLink1URL: https://www.microchip.com/sitesearch/search/Product%20and%20Development%20Tools/SAMA7D65-V/4HB-SL3; ComponentLink1Description: SVN Datasheet; ComponentLink2Description: Local Datasheet; ComponentLink3URL: C:\ALTIUM_WORK\00001_MCHP-CDB\Library\LibraryRefs\SAMA7D65-TFBGA-343.SchLib; ComponentLink3Description: Open Symbol; ComponentLink4URL: C:\ALTIUM_WORK\00001_MCHP-CDB\Library\Footprints\TFBGA-343_14x14.PcbLib; ComponentLink4Description: Open Footprint; ComponentLink5Description: Open Footprint 2; ComponentLink6Description: Open Footprint 3; ComponentLink7Description: Open Footprint 4; Supplier 1: Microchip Technology; Supplier Part Number 1: SAMA7D65-V/4HB-SL3; Operating Temperature: -40C to +105C; Quantity Override: 1
footprint TFBGA-343_14x14 (BGA, 343-Leads, Body 14,00mm x14,00mm, Pitch 0,65mm)
part A pins: AA20 PA23 (io), B21 PA25 (io), C21 PA27 (io), D21 PA29 (io), F21 PA31 (io), K14 PA26 (io), K15 PA30 (io), L13 PA28 (io), N11 PA15 (io), P9 PA24 (io), P10 PA22 (io), P11 PA13 (io), P12 PA11 (io), P15 PA7 (io), P16 PA4 (io), R9 PA17 (io), R10 PA20 (io), R12 PA10 (io), R13 PA8 (io), R14 PA2 (io), T14 PA6 (io), T18 PA3 (io), U14 PA9 (io), U18 PA0 (io), V14 PA14 (io), V15 PA16 (io), V16 PA5 (io), V17 PA1 (io), W15 PA12 (io), W16 PA18 (io), W18 PA19 (io), W19 PA21 (io)
part B pins: A2 PB30 (io), A13 PB25 (io), A15 PB26 (io), B15 PB24 (io), C3 PB28 (io), C5 PB31 (io), C11 PB27 (io), C14 PB22 (io), C20 PB7 (io), D14 PB23 (io), D15 PB21 (io), G4 PB29 (io), G21 PB1 (io), J14 PB2 (io), J15 PB4 (io), J20 PB5 (io), J21 PB3 (io), K13 PB6 (io), L14 PB19 (io), M10 PB0 (io), M12 PB20 (io), M14 PB17 (io), M15 PB15 (io), N14 PB13 (io), N15 PB14 (io), N20 PB16 (io), N21 PB18 (io), P17 PB10 (io), P18 PB12 (io), R18 PB9 (io), R19 PB11 (io), T19 PB8 (io)
part C pins: A3 PC23 (io), A16 PC31 (io), B1 PC7 (io), B3 PC25 (io), B16 PC29 (io), C1 PC11 (io), C2 PC4 (io), C6 PC20 (io), C8 PC1 (io), C15 PC27 (io), D1 PC13 (io), D4 PC17 (io), D5 PC19 (io), D6 PC9 (io), D7 PC2 (io), D16 PC28 (io), D17 PC30 (io), E6 PC8 (io), F3 PC15 (io), F4 PC22 (io), F5 PC24 (io), F7 PC18 (io), F8 PC21 (io), G3 PC5 (io), G6 PC26 (io), G8 PC3 (io), H4 PC16 (io), H5 PC12 (io), H6 PC6 (io), H7 PC10 (io), J7 PC14 (io), J8 PC0 (io)
part D pins: A18 PD1 (io), A19 PD5 (io), A20 PD7 (io), B18 PD3 (io), B19 PD30 (io), C16 PD0 (io), C18 PD14 (io), C19 PD28 (io), D18 PD12 (io), D19 PD26 (io), E18 PD16 (io), F14 PD9 (io), F18 PD19 (io), F19 PD22 (io), F20 PD31 (io), G10 PD6 (io), G12 PD4 (io), G13 PD2 (io), G14 PD8 (io), G16 PD10 (io), G18 PD23 (io), G19 PD24 (io), H11 PD11 (io), H12 PD15 (io), H13 PD17 (io), H15 PD21 (io), H16 PD18 (io), H18 PD29 (io), J11 PD13 (io), J12 PD20 (io), K9 PD25 (io), K10 PD27 (io)
part E pins: A4 PIOBU3 (in), A5 PIOBU1 (in), AA13 PE4 (io), AA15 PE6 (io), AA16 PE8 (io), AA18 PE12 (io), AA19 PE10 (io), D8 PIOBU2 (in), D20 PE3 (io), G20 PE1 (io), H17 PE0 (io), J10 PIOBU0 (in), K12 PE2 (io), Y13 PE5 (io), Y15 PE7 (io), Y16 PE9 (io), Y18 PE13 (io), Y19 PE11 (io)
part F pins: AA1 GND (power), AA2 DDR_ZQ (in), AA3 DDR_D13 (io), AA4 DDR_D9 (io), AA5 VDDIODDR (power), AA6 DDR_DQS1_N (io), AA7 DDR_D12 (io), AA8 GND (power), AA9 GND (power), K11 GND (power), L8 DDR_A8 (out), L9 DDR_A14 (out), L11 GND (power), M7 DDR_D1 (io), M8 DDR_D3 (io), M9 DDR_A11 (out), M11 VDDIODDR (power), N1 DDR_DQM0 (out), N2 DDR_D0 (io), N4 GND (power), N6 VDDIODDR (power), N7 DDR_D7 (io), N8 DDR_D5 (io), N9 VDDIODDR (power), N10 DDR_WE# (out), N12 VDDIODDR (power), P1 GND (power), P3 VDDIODDR (power), P4 DDR_BA1 (out), P5 DDR_A12 (out), P6 DDR_A1 (out), P7 DDR_A6 (out), P8 GND (power), P13 VDDIODDR (power), P14 GND (power), R1 DDR_DQS0_P (io), R2 DDR_DQS0_N (io), R3 DDR_D2 (io), R4 DDR_A15 (out), R5 GND (power), R6 DDR_A4 (out), R7 GND (power), R8 DDR_BA2 (out), R11 GND (power), T1 DDR_D6 (io), T2 DDR_D4 (io), T3 DDR_A10 (out), T4 DDR_CLK_N (out), T5 GND (power), T6 VDDIODDR (power), T7 VDDIODDR (power), T8 DDR_CAS# (out), T9 VDDIODDR (power), U1 GND (power), U3 VDDIODDR (power), U4 DDR_CLK_P (out), U5 VDDIODDR (power), U6 VDDIODDR (power), U7 GND (power), U8 DDR_RAS# (out), V1 DDR_RESET# (out), V2 DDR_A13 (out), V3 DDR_CKE (out), V4 DDR_A9 (out), V5 DDR_A2 (out), V6 DDR_A3 (out), V7 DDR_CS# (out), V8 DDR_BA0 (out), W1 DDR_ODT (out), W2 DDR_A7 (out), W3 DDR_D15 (io), W4 DDR_A5 (out), W5 GND (power), W6 DDR_A0 (out), W7 DDR_D14 (io), W8 VDDIODDR (power), Y1 DDR_VREF (in), Y2 VDDIODDR (power), Y3 DDR_D11 (io), Y4 DDR_DQM1 (out), Y6 DDR_DQS1_P (io), Y7 DDR_D8 (io), Y9 DDR_D10 (io)
part G pins: A6 LPM (out), A7 XOUT (out), A8 WKUP0 (in), A9 XIN32 (in), B4 SHDN (out), B6 DIODE_N (out), B7 XIN (in), B9 XOUT32 (out), B13 SDMMC1_CAL (in), C4 TEMP_GND, D3 NRST (in), E4 NRST_OUT (out), E14 SDMMC2_CAL (in), F1 HHSDMA (io), F2 HHSDPA (io), G1 HHSDMB (io), G2 HHSDPB (io), G9 TST (in), H9 DIODE_P (out), H10 JTAGSEL (in), J1 HHSDMC (io), J2 HHSDPC (io), K7 HHSRTUNE (in), K8 AUDIOCLK (out), M13 QSPI0_CAL (in), R16 SDMMC0_CAL (in), R20 MIPI_D3_N (out), R21 MIPI_D3_P (out), T20 MIPI_D2_N (out), T21 MIPI_D2_P (out), V18 MIPI_REXT (in), V20 MIPI_CLK_N (out), V21 MIPI_CLK_P (out), W20 MIPI_D1_N (out), W21 MIPI_D1_P (out), Y20 MIPI_D0_N (out), Y21 MIPI_D0_P (out)
part H pins: A1 GND (power), A11 GND (power), A14 GND (power), A17 GND (power), A21 GND (power), AA11 GNDLVDS (power), AA14 GND (power), AA17 GND (power), AA21 GND (power), B2 VDDCORE (power), B20 VDDCPU (power), C7 GND (power), C17 VDDIOP1 (power), D2 ADVREFP (power), D9 GND (power), D13 GND (power), E1 GNDANA (power), E3 VDDOUT25 (power), E5 VDDANA (power), E7 GNDANA (power), E8 VBAT (power), E15 GND (power), E16 VDDCPU (power), E17 VDDCPU (power), E19 VDDCPU (power), E21 GND (power), F6 VDDCORE (power), F9 VDDSDMMC1 (power), F13 VDDSDMMC2 (power), F15 VDDCORE (power), F16 GND (power), F17 VDDCPU (power), G5 GNDIN33 (power), G7 VDDIN33 (power), G11 GNDBAT (power), G15 GND (power), G17 GND (power), H1 GNDANA (power), H3 VDDCORE (power), H8 GND (power), H14 GND (power), H19 VDDGMAC1 (power), H21 GND (power), J4 GND (power), J6 VDDANA (power), J9 VDDCORE (power), J13 VDDCORE (power), J16 VDDCORE (power), J18 GND (power), L1 GND (power), L3 VDDUTMI (power), L7 GNDUTMI (power), L15 GND (power), L19 VDDGMAC0 (power), L21 GND (power), N13 VDDCORE (power), N16 VDDCORE (power), N18 GND (power), P19 VDDQSPI0 (power), P21 GND (power), R15 GNDDPHY (power), R17 GND (power), T13 VDDIOP0 (power), T15 VDDCORE (power), T16 VDDDPHY (power), T17 GND (power), U15 GNDDPHY (power), U16 VDDCORE (power), U17 VDDCORE (power), U19 VDDCORE (power), U21 GND (power), V9 GNDANA (power), V13 GND (power), V19 VDDCORE (power), W11 VDDLVDS (power), W14 VDDIN25 (power), W17 VDDSDMMC0 (power)

## SAMTEC-TLE-110-01-X-DV-A
designator J?  value SAMTEC-TLE-110-01-X-DV-A
Availability: Unavailable; MP: SAMTEC-TLE-110-01-X-DV-A; Price: None; Package: None
footprint SAMTEC-TLE-110-01-X-DV-A
pins: 1, 2, 3, 4, 5, 6, 7, 8, 9, 10, 11, 12, 13, 14, 15, 16, 17, 18, 19, 20

## SDCARD
designator J?, comment Manufacturer Part Number 1: GSD090012SEU  (hidden comment: SD-114-00841-68)
Manufacturer 1: Amphenol ICC (Commercial Products); MCHP-ID: CON2490; Value: SD Card 11P Receptacle; Symbol: CON SD CARD 11P_amphenol; Description_: CON FLASH SD 9+2P PUSH-PUSH SMD R/A; Dev Tools Status: Production; Owner: Ciprian Abramov; Populated: YES; Voltage: 5V; Current: 0.5A; Restricted Sourcing: No; Revision: 2; Status: MCL Design; ComponentLink1URL: https://chn-vm-apps.microchip.com/mchprepo/parts/Datasheets/gsd09001xseu.pdf; ComponentLink1Description: SVN Datasheet; ComponentLink2URL: C:\ALTIUM_WORK\00001_MCHP-CDB\Datasheets\gsd09001xseu.pdf; ComponentLink2Description: Local Datasheet; ComponentLink3URL: C:\ALTIUM_WORK\00001_MCHP-CDB\Library\LibraryRefs\CON SD CARD 11P_amphenol.SchLib; ComponentLink3Description: Open Symbol; ComponentLink4URL: C:\ALTIUM_WORK\00001_MCHP-CDB\Library\Footprints\CON_SD_GSD090012SEU.PcbLib; ComponentLink4Description: Open Footprint; ComponentLink5Description: Open Footprint 2; ComponentLink6Description: Open Footprint 3; ComponentLink7Description: Open Footprint 4; Type: Flash Card; Category: Connector; Supplier 1: Digi-Key; Supplier Part Number 1: 664-GSD090012SEUCT-ND; Quantity Override: 1; Operating Temperature: -40C to +90C; Assembly Type: SMD
footprint CON_SD_GSD090012SEU
pins: 1 DAT3 (io), 2 CMD (in), 3 VSS (power), 4 VDD (power), 5 CLK (in), 6 VSS (power), 7 DAT0 (io), 8 DAT1 (io), 9 DAT2 (io), 10 CD (out), 11 WP (out), 12 SHIELD

## SHUNT
designator R?, comment value 0.047R  Package: 1206  Tolerance: 1%  Power: 3/4W  (hidden comment: Shunt 4 Pin)
Shunt Resistor, RES 0.047 OHM 1% 3/4W 1206; Manufacturer 1: SUSUMU; Manufacturer Part Number 1: KRL1632E-M-R047-F-T5; MCHP-ID: RSMT1405; Description_: RES SHUNT MF 0.047R 1% 3/4W SMD 1206; Dev Tools Status: Design; Current: 4A; Owner: Ciprian Abramov; Populated: YES; Temperature Coefficient: ±50ppm/C; Restricted Sourcing: No; Revision: 1; Symbol: Shunt 4 Pin; Status: MCL Design; ComponentLink1URL: https://chn-vm-apps.microchip.com/mchprepo/parts/Datasheets/n_catalog_partition09_en.pdf; ComponentLink1Description: SVN Datasheet; ComponentLink2URL: C:\ALTIUM_WORK\00001_MCHP-CDB\Datasheets\n_catalog_partition09_en.pdf; ComponentLink2Description: Local Datasheet; ComponentLink3URL: C:\ALTIUM_WORK\00001_MCHP-CDB\Library\LibraryRefs\Shunt 4 Pin.SchLib; ComponentLink3Description: Open Symbol; ComponentLink4URL: C:\ALTIUM_WORK\00001_MCHP-CDB\Library\Footprints\RES_C_1206_SHUNT.PcbLib; ComponentLink4Description: Open Footprint; ComponentLink5Description: Open Footprint 2; ComponentLink6Description: Open Footprint 3; ComponentLink7Description: Open Footprint 4; Operating Temperature: -55C to 155C; Category: Resistor; Type: Shunt; Composition: MF; Supplier 1: Digi-Key; Supplier Part Number 1: 408-1578-2-ND; Quantity Override: 1
footprint RES_C_1206_SHUNT (Chip Resistor, 2-Leads, Body 3.2x1.6mm, IPC Medium Density)
part A pins: 1, 2, 3, 4

## SN65HVD230DR
designator U?
3.3 V CAN Transceiver with Standby Mode; MF: Texas Instruments; MP: SN65HVD230DR; SnapEDA_Link: https://www.snapeda.com/parts/SN65HVD230DR/Texas+Instruments/view-part/?ref=snap; Package: SOIC-8 Texas Instruments; Value: *; Check_prices: https://www.snapeda.com/parts/SN65HVD230DR/Texas+Instruments/view-part/?ref=eda
footprint SOIC127P599X175-8N (SN65HVD230DR)
pins: 1 D (in), 2 GND (power), 3 VCC (power), 4 R (out), 5 VREF (out), 6 CANL, 7 CANH, 8 RS (in)

## SS54
designator D?
DIODE SCHOTTKY 40V 5A SMA; MPN: SS34; Solder: SMT; Value: SS34; MFR: *
footprint DO-214AC_SMA (Molded Diode, 2-Leads, Body 5.20x2.61mm, IPC Medium Density)
pins: 1 A, 2 K

## SW3x1
designator SW?, comment Switch 3x1
Value: Switch 4x2
footprint SS12D10
pins: 1, 2, 3 I/O2

## TC1047AVNBTR
designator U?
No Description Available; Manufacturer_Name: Microchip; Copyright: Copyright (C) 2025 Ultra Librarian. All rights reserved.; Manufacturer_Part_Number: TC1047AVNBTR; RefDes: RefDes; Type: Type
footprint SOT-23_MC_MCH
pins: 1 VDD, 2 VOUT, 3 VSS
text: Vout

## Test Point
designator TP1  (no BOM)
Test Point; Solder: NF
footprint Testpoint_50
footprint Testpoint_60
footprint Testpoint_70
footprint Testpoint_80
footprint Testpoint_TH_D130H80
pins: 0

## TPL5010DDCR
designator U?
OSC PROG TIMER TSOT23-6
footprint TPL5010DDCR
pins: 1 VDD, 2 GND, 3 DELAY/MRST, 4 DONE, 5 WAKE, 6 ~{RST}